# Altium integrated library Altera FLEX 6000.IntLib: 56 symbols (part 5 of 5)
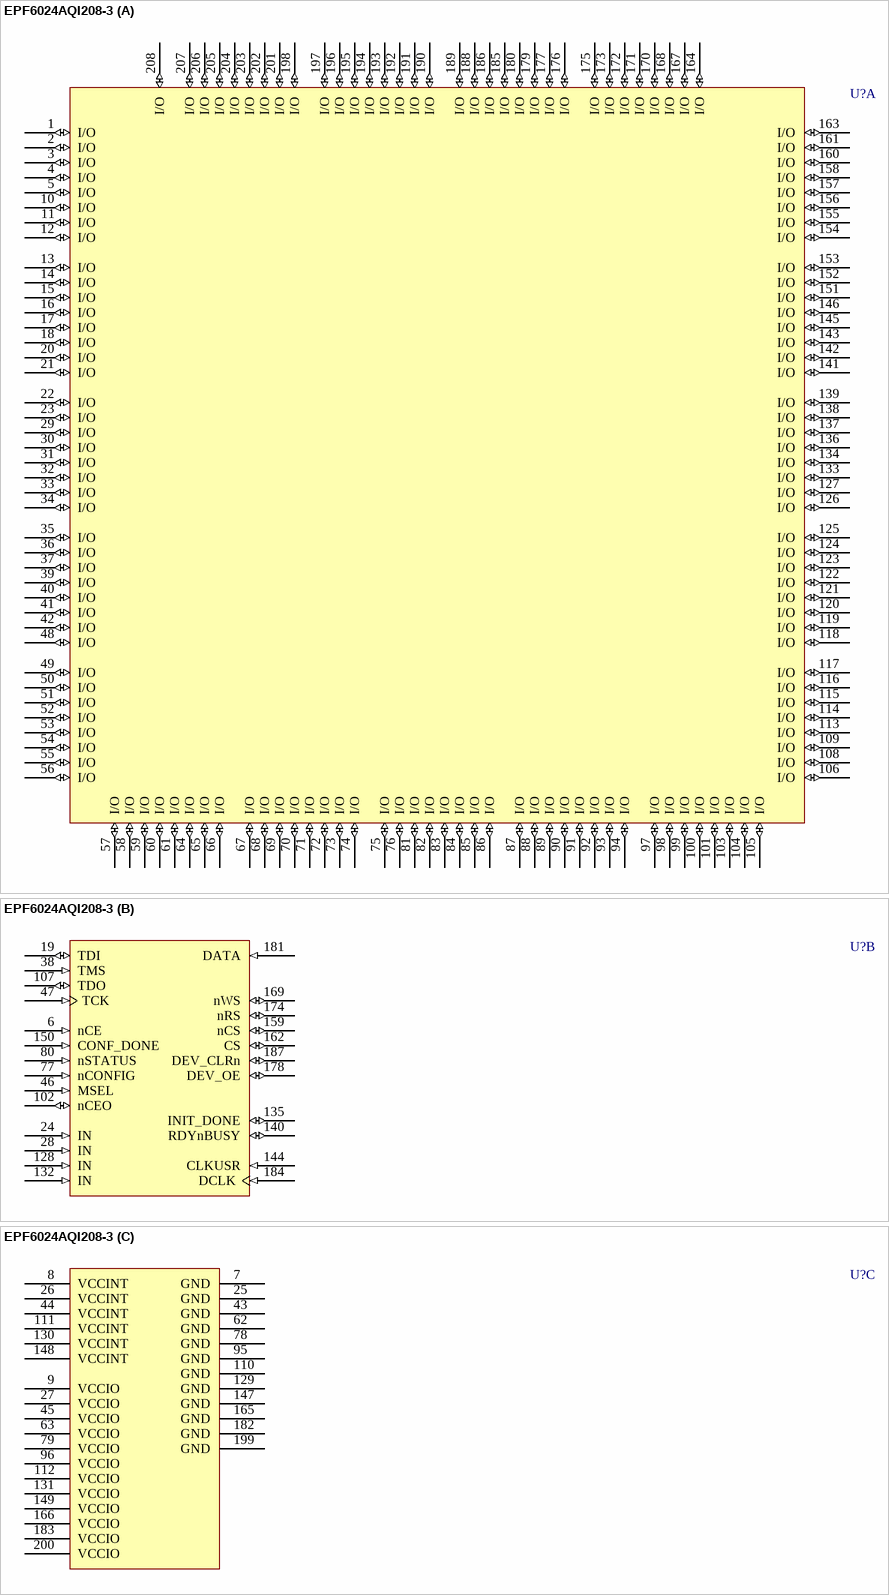
[diagram p44: symbol EPF6024AQI208-3]

## EPF6024AQI208-3
designator U?
FLEX EPF6024A 3.3V PLD, 171 User IO Pins, 208-Pin PQFP, Speed Grade 3, Industrial Grade; ComponentAvailability: Obsolete; Published: 17-Jul-2002; LatestRevisionDate: 13-Apr-2006; LatestRevisionNote: IPC-7351 Footprint Added.; DatasheetVersion: Mar-2001; PackageVersion: ver14.1, Oct-2005; PackageReference: PQFP208; Publisher: Altium Limited; PackageDescription: 208-Pin Plastic Quad Flat Pack (PQFP208); Code_JEDEC: MS-029-FA-1; ComponentLink1Description: Manufacturer Link; ComponentLink1URL: http://www.altera.com/products/devices/flex6k/f6k-index.html; ComponentLink2Description: Datasheet; ComponentLink2URL: http://www.altera.com/literature/ds/dsf6k.pdf; ComponentLink3Description: Discontinuation Notice; ComponentLink3URL: http://www.altera.com/literature/pcn/pdn0314.pdf
footprint PQFP208_N (Shrink QFP, 208-Leads, Body 28x28mm, Pitch 0.5mm, IPC Medium Density)
footprint PQFP208_L (Shrink QFP, 208-Leads, Body 28x28mm, Pitch 0.5mm, IPC High Density)
footprint PQFP208_M (Shrink QFP, 208-Leads, Body 28x28mm, Pitch 0.5mm, IPC Low Density)
3D model EPF6024A-PQFP208 (208-Pin Plastic Quad Flat Pack (PQFP208))
part A pins: 1 I/O (io), 2 I/O (io), 3 I/O (io), 4 I/O (io), 5 I/O (io), 10 I/O (io), 11 I/O (io), 12 I/O (io), 13 I/O (io), 14 I/O (io), 15 I/O (io), 16 I/O (io), 17 I/O (io), 18 I/O (io), 20 I/O (io), 21 I/O (io), 22 I/O (io), 23 I/O (io), 29 I/O (io), 30 I/O (io), 31 I/O (io), 32 I/O (io), 33 I/O (io), 34 I/O (io), 35 I/O (io), 36 I/O (io), 37 I/O (io), 39 I/O (io), 40 I/O (io), 41 I/O (io), 42 I/O (io), 48 I/O (io), 49 I/O (io), 50 I/O (io), 51 I/O (io), 52 I/O (io), 53 I/O (io), 54 I/O (io), 55 I/O (io), 56 I/O (io), 57 I/O (io), 58 I/O (io), 59 I/O (io), 60 I/O (io), 61 I/O (io), 64 I/O (io), 65 I/O (io), 66 I/O (io), 67 I/O (io), 68 I/O (io), 69 I/O (io), 70 I/O (io), 71 I/O (io), 72 I/O (io), 73 I/O (io), 74 I/O (io), 75 I/O (io), 76 I/O (io), 81 I/O (io), 82 I/O (io), 83 I/O (io), 84 I/O (io), 85 I/O (io), 86 I/O (io), 87 I/O (io), 88 I/O (io), 89 I/O (io), 90 I/O (io), 91 I/O (io), 92 I/O (io), 93 I/O (io), 94 I/O (io), 97 I/O (io), 98 I/O (io), 99 I/O (io), 100 I/O (io), 101 I/O (io), 103 I/O (io), 104 I/O (io), 105 I/O (io), 106 I/O (io), 108 I/O (io), 109 I/O (io), 113 I/O (io), 114 I/O (io), 115 I/O (io), 116 I/O (io), 117 I/O (io), 118 I/O (io), 119 I/O (io), 120 I/O (io), 121 I/O (io), 122 I/O (io), 123 I/O (io), 124 I/O (io), 125 I/O (io), 126 I/O (io), 127 I/O (io), 133 I/O (io), 134 I/O (io), 136 I/O (io), 137 I/O (io), 138 I/O (io), 139 I/O (io), 141 I/O (io), 142 I/O (io), 143 I/O (io), 145 I/O (io), 146 I/O (io), 151 I/O (io), 152 I/O (io), 153 I/O (io), 154 I/O (io), 155 I/O (io), 156 I/O (io), 157 I/O (io), 158 I/O (io), 160 I/O (io), 161 I/O (io), 163 I/O (io), 164 I/O (io), 167 I/O (io), 168 I/O (io), 170 I/O (io), 171 I/O (io), 172 I/O (io), 173 I/O (io), 175 I/O (io), 176 I/O (io), 177 I/O (io), 179 I/O (io), 180 I/O (io), 185 I/O (io), 186 I/O (io), 188 I/O (io), 189 I/O (io), 190 I/O (io), 191 I/O (io), 192 I/O (io), 193 I/O (io), 194 I/O (io), 195 I/O (io), 196 I/O (io), 197 I/O (io), 198 I/O (io), 201 I/O (io), 202 I/O (io), 203 I/O (io), 204 I/O (io), 205 I/O (io), 206 I/O (io), 207 I/O (io), 208 I/O (io)
part B pins: 6 nCE (in), 19 TDI (io), 24 IN (in), 28 IN (in), 38 TMS (in), 46 MSEL (in), 47 TCK (in), 77 nCONFIG (in), 80 nSTATUS (in), 102 nCEO (io), 107 TDO (io), 128 IN (in), 132 IN (in), 135 INIT_DONE (io), 140 RDYnBUSY (io), 144 CLKUSR (in), 150 CONF_DONE (in), 159 nCS (io), 162 CS (io), 169 nWS (io), 174 nRS (io), 178 DEV_OE (io), 181 DATA (in), 184 DCLK (in), 187 DEV_CLRn (io)
part C pins: 7 GND (power), 8 VCCINT (power), 9 VCCIO (power), 25 GND (power), 26 VCCINT (power), 27 VCCIO (power), 43 GND (power), 44 VCCINT (power), 45 VCCIO (power), 62 GND (power), 63 VCCIO (power), 78 GND (power), 79 VCCIO (power), 95 GND (power), 96 VCCIO (power), 110 GND (power), 111 VCCINT (power), 112 VCCIO (power), 129 GND (power), 130 VCCINT (power), 131 VCCIO (power), 147 GND (power), 148 VCCINT (power), 149 VCCIO (power), 165 GND (power), 166 VCCIO (power), 182 GND (power), 183 VCCIO (power), 199 GND (power), 200 VCCIO (power)

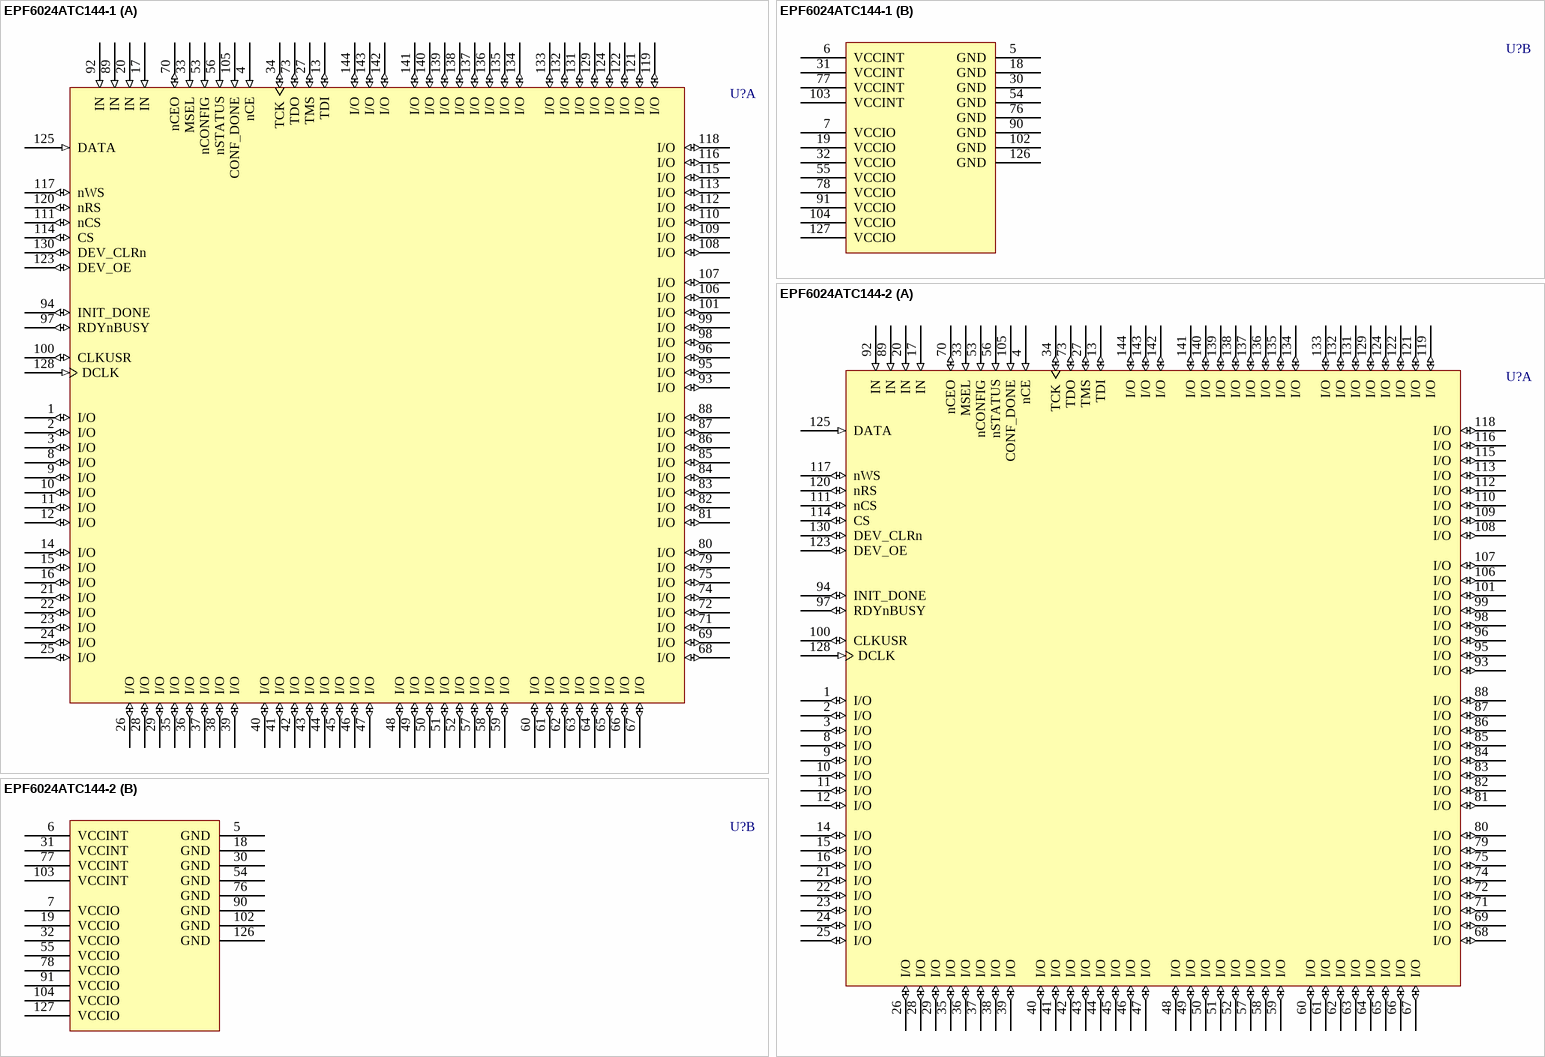
[diagram p39: symbols EPF6024ATC144-1 to EPF6024ATC144-2]

## EPF6024ATC144-1
designator U?
FLEX EPF6024A 3.3V PLD, 117 User IO Pins, 144-Pin TQFP, Speed Grade 1, Commercial Grade; Published: 17-Jul-2002; LatestRevisionDate: 13-Apr-2006; LatestRevisionNote: IPC-7351 Footprint Added.; DatasheetVersion: ver4.1, Mar-2001; PackageVersion: ver14.1, Oct-2005; PackageReference: TQFP144; Publisher: Altium Limited; PackageDescription: 144-Pin Plastic Thin Quad Flat Pack (TQFP144); Code_JEDEC: MS-026-BFB; ComponentLink1Description: Manufacturer Link; ComponentLink1URL: http://www.altera.com/products/devices/flex6k/f6k-index.html; ComponentLink2Description: Datasheet; ComponentLink2URL: http://www.altera.com/literature/ds/dsf6k.pdf
footprint TQFP144_N (Thin QFP, 144-Leads, Body 20x20mm, Pitch 0.5mm, IPC Medium Density)
footprint TQFP144_L (Thin QFP, 144-Leads, Body 20x20mm, Pitch 0.5mm, IPC High Density)
footprint TQFP144_M (Thin QFP, 144-Leads, Body 20x20mm, Pitch 0.5mm, IPC Low Density)
3D model EPF6024A-TQFP144 (144-Pin Plastic Thin Quad Flat Pack (TQFP144))
part A pins: 1 I/O (io), 2 I/O (io), 3 I/O (io), 4 nCE (in), 8 I/O (io), 9 I/O (io), 10 I/O (io), 11 I/O (io), 12 I/O (io), 13 TDI (io), 14 I/O (io), 15 I/O (io), 16 I/O (io), 17 IN (in), 20 IN (in), 21 I/O (io), 22 I/O (io), 23 I/O (io), 24 I/O (io), 25 I/O (io), 26 I/O (io), 27 TMS (io), 28 I/O (io), 29 I/O (io), 33 MSEL (in), 34 TCK (io), 35 I/O (io), 36 I/O (io), 37 I/O (io), 38 I/O (io), 39 I/O (io), 40 I/O (io), 41 I/O (io), 42 I/O (io), 43 I/O (io), 44 I/O (io), 45 I/O (io), 46 I/O (io), 47 I/O (io), 48 I/O (io), 49 I/O (io), 50 I/O (io), 51 I/O (io), 52 I/O (io), 53 nCONFIG (in), 56 nSTATUS (in), 57 I/O (io), 58 I/O (io), 59 I/O (io), 60 I/O (io), 61 I/O (io), 62 I/O (io), 63 I/O (io), 64 I/O (io), 65 I/O (io), 66 I/O (io), 67 I/O (io), 68 I/O (io), 69 I/O (io), 70 nCEO (io), 71 I/O (io), 72 I/O (io), 73 TDO (io), 74 I/O (io), 75 I/O (io), 79 I/O (io), 80 I/O (io), 81 I/O (io), 82 I/O (io), 83 I/O (io), 84 I/O (io), 85 I/O (io), 86 I/O (io), 87 I/O (io), 88 I/O (io), 89 IN (in), 92 IN (in), 93 I/O (io), 94 INIT_DONE (io), 95 I/O (io), 96 I/O (io), 97 RDYnBUSY (io), 98 I/O (io), 99 I/O (io), 100 CLKUSR (io), 101 I/O (io), 105 CONF_DONE (in), 106 I/O (io), 107 I/O (io), 108 I/O (io), 109 I/O (io), 110 I/O (io), 111 nCS (io), 112 I/O (io), 113 I/O (io), 114 CS (io), 115 I/O (io), 116 I/O (io), 117 nWS (io), 118 I/O (io), 119 I/O (io), 120 nRS (io), 121 I/O (io), 122 I/O (io), 123 DEV_OE (io), 124 I/O (io), 125 DATA (in), 128 DCLK (in), 129 I/O (io), 130 DEV_CLRn (io), 131 I/O (io), 132 I/O (io), 133 I/O (io), 134 I/O (io), 135 I/O (io), 136 I/O (io), 137 I/O (io), 138 I/O (io), 139 I/O (io), 140 I/O (io), 141 I/O (io), 142 I/O (io), 143 I/O (io), 144 I/O (io)
part B pins: 5 GND (power), 6 VCCINT (power), 7 VCCIO (power), 18 GND (power), 19 VCCIO (power), 30 GND (power), 31 VCCINT (power), 32 VCCIO (power), 54 GND (power), 55 VCCIO (power), 76 GND (power), 77 VCCINT (power), 78 VCCIO (power), 90 GND (power), 91 VCCIO (power), 102 GND (power), 103 VCCINT (power), 104 VCCIO (power), 126 GND (power), 127 VCCIO (power)

## EPF6024ATC144-2
designator U?
FLEX EPF6024A 3.3V PLD, 117 User IO Pins, 144-Pin TQFP, Speed Grade 2, Commercial Grade; Published: 17-Jul-2002; LatestRevisionDate: 13-Apr-2006; LatestRevisionNote: IPC-7351 Footprint Added.; DatasheetVersion: ver4.1, Mar-2001; PackageVersion: ver14.1, Oct-2005; PackageReference: TQFP144; Publisher: Altium Limited; PackageDescription: 144-Pin Plastic Thin Quad Flat Pack (TQFP144); Code_JEDEC: MS-026-BFB; ComponentLink1Description: Manufacturer Link; ComponentLink1URL: http://www.altera.com/products/devices/flex6k/f6k-index.html; ComponentLink2Description: Datasheet; ComponentLink2URL: http://www.altera.com/literature/ds/dsf6k.pdf
footprint TQFP144_N (Thin QFP, 144-Leads, Body 20x20mm, Pitch 0.5mm, IPC Medium Density)
footprint TQFP144_L (Thin QFP, 144-Leads, Body 20x20mm, Pitch 0.5mm, IPC High Density)
footprint TQFP144_M (Thin QFP, 144-Leads, Body 20x20mm, Pitch 0.5mm, IPC Low Density)
3D model EPF6024A-TQFP144 (144-Pin Plastic Thin Quad Flat Pack (TQFP144))
part A pins: 1 I/O (io), 2 I/O (io), 3 I/O (io), 4 nCE (in), 8 I/O (io), 9 I/O (io), 10 I/O (io), 11 I/O (io), 12 I/O (io), 13 TDI (io), 14 I/O (io), 15 I/O (io), 16 I/O (io), 17 IN (in), 20 IN (in), 21 I/O (io), 22 I/O (io), 23 I/O (io), 24 I/O (io), 25 I/O (io), 26 I/O (io), 27 TMS (io), 28 I/O (io), 29 I/O (io), 33 MSEL (in), 34 TCK (io), 35 I/O (io), 36 I/O (io), 37 I/O (io), 38 I/O (io), 39 I/O (io), 40 I/O (io), 41 I/O (io), 42 I/O (io), 43 I/O (io), 44 I/O (io), 45 I/O (io), 46 I/O (io), 47 I/O (io), 48 I/O (io), 49 I/O (io), 50 I/O (io), 51 I/O (io), 52 I/O (io), 53 nCONFIG (in), 56 nSTATUS (in), 57 I/O (io), 58 I/O (io), 59 I/O (io), 60 I/O (io), 61 I/O (io), 62 I/O (io), 63 I/O (io), 64 I/O (io), 65 I/O (io), 66 I/O (io), 67 I/O (io), 68 I/O (io), 69 I/O (io), 70 nCEO (io), 71 I/O (io), 72 I/O (io), 73 TDO (io), 74 I/O (io), 75 I/O (io), 79 I/O (io), 80 I/O (io), 81 I/O (io), 82 I/O (io), 83 I/O (io), 84 I/O (io), 85 I/O (io), 86 I/O (io), 87 I/O (io), 88 I/O (io), 89 IN (in), 92 IN (in), 93 I/O (io), 94 INIT_DONE (io), 95 I/O (io), 96 I/O (io), 97 RDYnBUSY (io), 98 I/O (io), 99 I/O (io), 100 CLKUSR (io), 101 I/O (io), 105 CONF_DONE (in), 106 I/O (io), 107 I/O (io), 108 I/O (io), 109 I/O (io), 110 I/O (io), 111 nCS (io), 112 I/O (io), 113 I/O (io), 114 CS (io), 115 I/O (io), 116 I/O (io), 117 nWS (io), 118 I/O (io), 119 I/O (io), 120 nRS (io), 121 I/O (io), 122 I/O (io), 123 DEV_OE (io), 124 I/O (io), 125 DATA (in), 128 DCLK (in), 129 I/O (io), 130 DEV_CLRn (io), 131 I/O (io), 132 I/O (io), 133 I/O (io), 134 I/O (io), 135 I/O (io), 136 I/O (io), 137 I/O (io), 138 I/O (io), 139 I/O (io), 140 I/O (io), 141 I/O (io), 142 I/O (io), 143 I/O (io), 144 I/O (io)
part B pins: 5 GND (power), 6 VCCINT (power), 7 VCCIO (power), 18 GND (power), 19 VCCIO (power), 30 GND (power), 31 VCCINT (power), 32 VCCIO (power), 54 GND (power), 55 VCCIO (power), 76 GND (power), 77 VCCINT (power), 78 VCCIO (power), 90 GND (power), 91 VCCIO (power), 102 GND (power), 103 VCCINT (power), 104 VCCIO (power), 126 GND (power), 127 VCCIO (power)

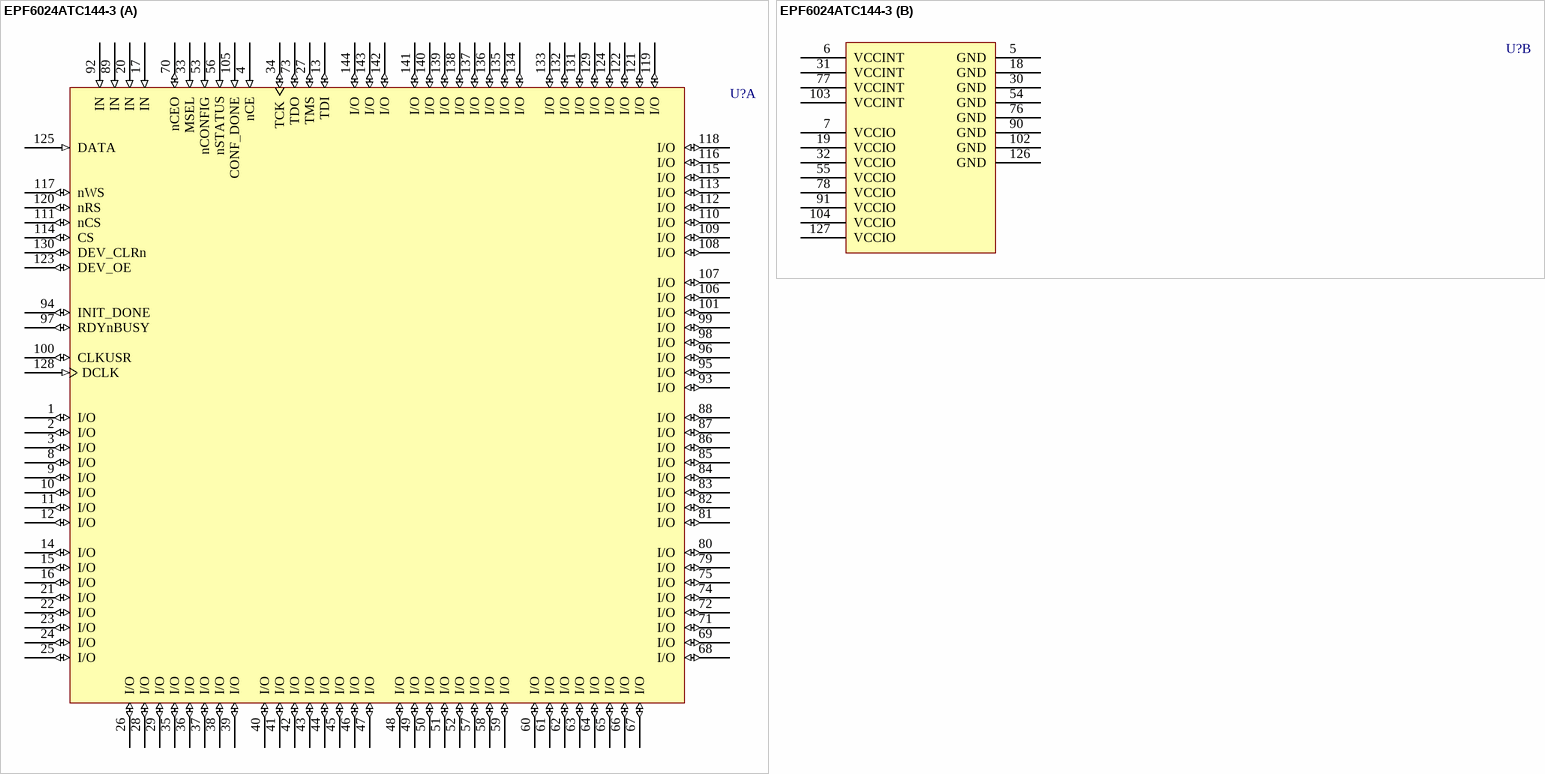
[diagram p40: symbol EPF6024ATC144-3]

## EPF6024ATC144-3
designator U?
FLEX EPF6024A 3.3V PLD, 117 User IO Pins, 144-Pin TQFP, Speed Grade 3, Commercial Grade; Published: 17-Jul-2002; LatestRevisionDate: 13-Apr-2006; LatestRevisionNote: IPC-7351 Footprint Added.; DatasheetVersion: ver4.1, Mar-2001; PackageVersion: ver14.1, Oct-2005; PackageReference: TQFP144; Publisher: Altium Limited; PackageDescription: 144-Pin Plastic Thin Quad Flat Pack (TQFP144); Code_JEDEC: MS-026-BFB; ComponentLink1Description: Manufacturer Link; ComponentLink1URL: http://www.altera.com/products/devices/flex6k/f6k-index.html; ComponentLink2Description: Datasheet; ComponentLink2URL: http://www.altera.com/literature/ds/dsf6k.pdf
footprint TQFP144_N (Thin QFP, 144-Leads, Body 20x20mm, Pitch 0.5mm, IPC Medium Density)
footprint TQFP144_L (Thin QFP, 144-Leads, Body 20x20mm, Pitch 0.5mm, IPC High Density)
footprint TQFP144_M (Thin QFP, 144-Leads, Body 20x20mm, Pitch 0.5mm, IPC Low Density)
3D model EPF6024A-TQFP144 (144-Pin Plastic Thin Quad Flat Pack (TQFP144))
part A pins: 1 I/O (io), 2 I/O (io), 3 I/O (io), 4 nCE (in), 8 I/O (io), 9 I/O (io), 10 I/O (io), 11 I/O (io), 12 I/O (io), 13 TDI (io), 14 I/O (io), 15 I/O (io), 16 I/O (io), 17 IN (in), 20 IN (in), 21 I/O (io), 22 I/O (io), 23 I/O (io), 24 I/O (io), 25 I/O (io), 26 I/O (io), 27 TMS (io), 28 I/O (io), 29 I/O (io), 33 MSEL (in), 34 TCK (io), 35 I/O (io), 36 I/O (io), 37 I/O (io), 38 I/O (io), 39 I/O (io), 40 I/O (io), 41 I/O (io), 42 I/O (io), 43 I/O (io), 44 I/O (io), 45 I/O (io), 46 I/O (io), 47 I/O (io), 48 I/O (io), 49 I/O (io), 50 I/O (io), 51 I/O (io), 52 I/O (io), 53 nCONFIG (in), 56 nSTATUS (in), 57 I/O (io), 58 I/O (io), 59 I/O (io), 60 I/O (io), 61 I/O (io), 62 I/O (io), 63 I/O (io), 64 I/O (io), 65 I/O (io), 66 I/O (io), 67 I/O (io), 68 I/O (io), 69 I/O (io), 70 nCEO (io), 71 I/O (io), 72 I/O (io), 73 TDO (io), 74 I/O (io), 75 I/O (io), 79 I/O (io), 80 I/O (io), 81 I/O (io), 82 I/O (io), 83 I/O (io), 84 I/O (io), 85 I/O (io), 86 I/O (io), 87 I/O (io), 88 I/O (io), 89 IN (in), 92 IN (in), 93 I/O (io), 94 INIT_DONE (io), 95 I/O (io), 96 I/O (io), 97 RDYnBUSY (io), 98 I/O (io), 99 I/O (io), 100 CLKUSR (io), 101 I/O (io), 105 CONF_DONE (in), 106 I/O (io), 107 I/O (io), 108 I/O (io), 109 I/O (io), 110 I/O (io), 111 nCS (io), 112 I/O (io), 113 I/O (io), 114 CS (io), 115 I/O (io), 116 I/O (io), 117 nWS (io), 118 I/O (io), 119 I/O (io), 120 nRS (io), 121 I/O (io), 122 I/O (io), 123 DEV_OE (io), 124 I/O (io), 125 DATA (in), 128 DCLK (in), 129 I/O (io), 130 DEV_CLRn (io), 131 I/O (io), 132 I/O (io), 133 I/O (io), 134 I/O (io), 135 I/O (io), 136 I/O (io), 137 I/O (io), 138 I/O (io), 139 I/O (io), 140 I/O (io), 141 I/O (io), 142 I/O (io), 143 I/O (io), 144 I/O (io)
part B pins: 5 GND (power), 6 VCCINT (power), 7 VCCIO (power), 18 GND (power), 19 VCCIO (power), 30 GND (power), 31 VCCINT (power), 32 VCCIO (power), 54 GND (power), 55 VCCIO (power), 76 GND (power), 77 VCCINT (power), 78 VCCIO (power), 90 GND (power), 91 VCCIO (power), 102 GND (power), 103 VCCINT (power), 104 VCCIO (power), 126 GND (power), 127 VCCIO (power)